# Altium integrated library Rectangular Connectors.IntLib: 6 symbols
Pins are listed as number, name and electrical type; pins without a type are passive.

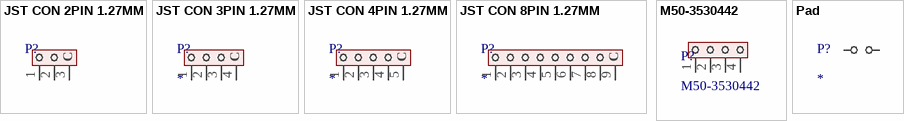
[diagram p0: symbols JST CON 2PIN 1.27MM to Pad]

## JST CON 2PIN 1.27MM
designator P?
footprint JST 2 PIN 1.27 (1.27mm)
pins: 1 A, 2 B, 3 Chassıs
text: C

## JST CON 3PIN 1.27MM
designator P?
pins: 1 A, 2 B, 3 C, 4 Chassıs

## JST CON 4PIN 1.27MM
designator P?
footprint JST 4 PIN 1.27 (1.27mm)
pins: 1 A, 2 B, 3 C, 4 D, 5 Chassıs

## JST CON 8PIN 1.27MM
designator P?
footprint JST 8 PIN 1.27
pins: 1 A, 2 B, 3 C, 4 D, 5 E, 6 F, 7 G, 8 H, 9 Chassis

## M50-3530442
designator P?
Conn Unshrouded Header HDR 4 POS 1.27mm Solder ST Thru-Hole Box; Manufacturer: Harwin; Number of Positions: 4; Mated Stacking Heights: 5.4mm; Designed: Ferdi; Supplier 1: Digi-Key; Manufacturer Part Number: M50-3530442; RoHS: Yes; Category: Headers and Wire Housings; Stock 1: 13274; Pricing 1: 1=0,21, 10=0,181, 100=0,1392, 500=0,11776, 1000=0,09635, 5000=0,08565, 10000=0,07762 (USD); Mount: Through Hole; Contact Material: Brass; Contact Shape: Square; Insulation Material: Nylon; Insulation Color: Black; Contact Finish - Mating: GOLD; Min Operating Temperature: -40°C; Max Operating Temperature: 105°C; Connector Type: Header; Fastening Type: Pull; Packaging: Bulk; Number of Rows: 1; Termination: Solder; Series: Archer M50; Contact Type: Male Pin; Flammability Rating: UL94 V-0; RoHS Compliant: Yes; ComponentLink1URL: https://cdn.harwin.com/pdfs/M50-353.pdf?src-supplier=Digi-Key; ComponentLink1Description: https://cdn.harwin.com/pdfs/M50-353.pdf?src-supplier=Digi-Key; Supplier Part Number 1: 952-3600-ND
footprint HDR 4PIN 1.27 (Through Hole / Female /)
pins: 1 A, 2 B, 3 C, 4 D

## Pad
designator P?
footprint Pad
pins: 1, 2